# Altium schematic symbol library OptoIso.SchLib: 14 symbols
Pins are listed as number, name and electrical type; pins without a type are passive.

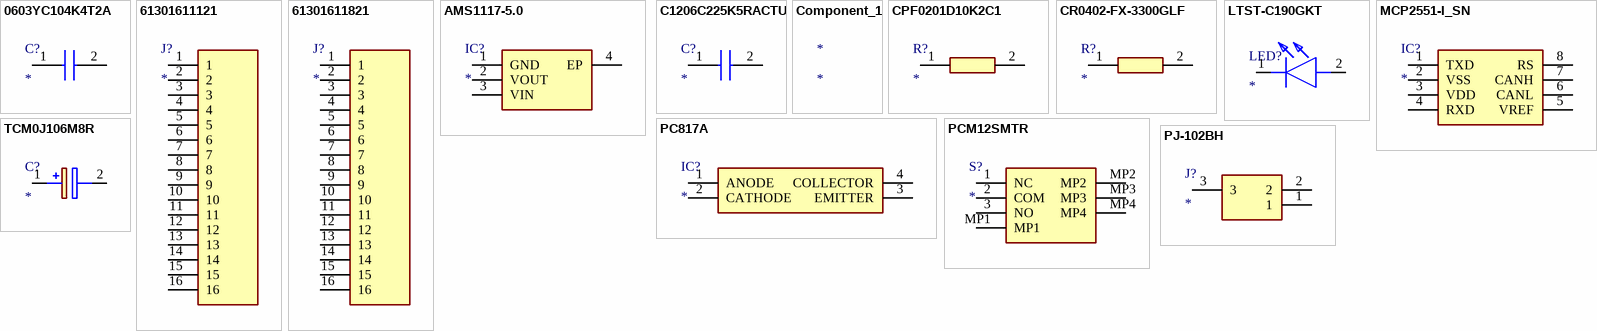
[diagram p0: symbols 0603YC104K4T2A to TCM0J106M8R]

## 0603YC104K4T2A
designator C?
Capacitor; Manufacturer_Name: AVX; Manufacturer_Part_Number: 0603YC104K4T2A; Datasheet Link: https://componentsearchengine.com/Datasheets/1/06031A100FAT2A.pdf; Height: 0.9mm; Mouser Part Number: 581-0603YC104K4; Mouser Price/Stock: https://www.mouser.co.uk/ProductDetail/AVX/0603YC104K4T2A/?qs=Cej1j9ztgjHj4I01NaBI3A%3D%3D; Arrow Part Number: 0603YC104K4T2A; Arrow Price/Stock: https://www.arrow.com/en/products/0603yc104k4t2a/avx
footprint CAPC1608X90N
pins: 1, 2

## 61301611121
designator J?
Connector; Manufacturer_Name: Wurth Elektronik; Manufacturer_Part_Number: 61301611121; Datasheet Link: https://www.we-online.com/catalog/datasheet/61301611121.pdf; Height: 8.74mm; Mouser Part Number: 710-61301611121; Mouser Price/Stock: https://www.mouser.co.uk/ProductDetail/Wurth-Elektronik/61301611121?qs=PhR8RmCirEYq%2F9PEO1%2F%252B%252Bg%3D%3D
footprint HDRV16W79P0X254_1X16_4064X254X874P
pins: 1, 2, 3, 4, 5, 6, 7, 8, 9, 10, 11, 12, 13, 14, 15, 16

## 61301611821
designator J?
Connector; Manufacturer_Name: Wurth Elektronik; Manufacturer_Part_Number: 61301611821; Datasheet Link: https://www.we-online.com/catalog/datasheet/61301611821.pdf; Height: 8.65mm; Mouser Part Number: 710-61301611821; Mouser Price/Stock: https://www.mouser.co.uk/ProductDetail/Wurth-Elektronik/61301611821?qs=xZ%2FP%252Ba9zWqYIxo6RU%252B1Wuw%3D%3D
footprint RHDR16W82P0X254_1X16_4114X250X865P
pins: 1, 2, 3, 4, 5, 6, 7, 8, 9, 10, 11, 12, 13, 14, 15, 16

## AMS1117-5.0
designator IC?
Integrated Circuit; Manufacturer_Name: Shikues; Manufacturer_Part_Number: AMS1117-5.0; Datasheet Link: https://datasheet.lcsc.com/szlcsc/SK-AMS1117-5-0_C165483.pdf; Height: 1.8mm
footprint SOT290P700X180-4N
pins: 1 GND, 2 VOUT, 3 VIN, 4 EP

## C1206C225K5RACTU
designator C?
Capacitor; Manufacturer_Name: KEMET; Manufacturer_Part_Number: C1206C225K5RACTU; Description: SMD Comm X7R; Datasheet Link: https://content.kemet.com/datasheets/KEM_C1002_X7R_SMD.pdf; Mouser Part Number: 80-C1206C225K5R; Mouser Price/Stock: https://www.mouser.co.uk/ProductDetail/KEMET/C1206C225K5RACTU?qs=STjISULpmtZpfJMIEM1zeA%3D%3D; Arrow Part Number: C1206C225K5RACTU; Arrow Price/Stock: https://www.arrow.com/en/products/c1206c225k5ractu/kemet-corporation?region=nac
footprint C1206
pins: 1, 2

## Component_1
designator *

## CPF0201D10K2C1
designator R?
Resistor; Manufacturer_Name: TE Connectivity; Manufacturer_Part_Number: CPF0201D10K2C1; Description: 10.2k 0201 Thin Film Surface Mount Fixed Resistor +/-0.5% 0.031W CPF0201D10K2C1; Datasheet Link: http://www.te.com/commerce/DocumentDelivery/DDEController?Action=showdoc&DocId=Data+Sheet%7F1773200-1%7FA%7Fpdf%7FEnglish%7FENG_DS_1773200-1_A.pdf%7F4-2176215-6; Height: 0.28mm; Mouser Part Number: N/A; Mouser Price/Stock: https://www.mouser.com/Search/Refine.aspx?Keyword=N%2FA
footprint RESC0603X28N
pins: 1, 2

## CR0402-FX-3300GLF
designator R?
Resistor; Manufacturer_Name: Bourns; Manufacturer_Part_Number: CR0402-FX-3300GLF; Datasheet Link: https://www.bourns.com/pdfs/CR0402.pdf; Height: 0.4mm; Mouser Part Number: 652-CR0402FX-3300GLF; Mouser Price/Stock: https://www.mouser.co.uk/ProductDetail/Bourns/CR0402-FX-3300GLF?qs=SFHnMgm9IsyaL104gdTOhg%3D%3D; Arrow Part Number: CR0402-FX-3300GLF; Arrow Price/Stock: https://www.arrow.com/en/products/cr0402-fx-3300glf/bourns
footprint RESC1005X40N
pins: 1, 2

## LTST-C190GKT
designator LED?
LED; Manufacturer_Name: Lite-On; Manufacturer_Part_Number: LTST-C190GKT; Datasheet Link: https://media.digikey.com/pdf/Data%20Sheets/Lite-On%20PDFs/LTST-C190GKT.pdf; Height: 0.9mm; Mouser Part Number: 859-LTST-C190GKT; Mouser Price/Stock: https://www.mouser.co.uk/ProductDetail/Lite-On/LTST-C190GKT?qs=drxkyCeiWgbQzclgbojDOg%3D%3D; Arrow Part Number: LTST-C190GKT; Arrow Price/Stock: https://www.arrow.com/en/products/ltst-c190gkt/lite-on-technology?region=nac
footprint LEDC1608X90N
pins: 1 K, 2 A

## MCP2551-I_SN
designator IC?
Integrated Circuit; Manufacturer_Name: Microchip; Manufacturer_Part_Number: MCP2551-I/SN; Description: High Speed CAN Transceiver,MCP2551-I/SN; Datasheet Link: https://datasheet.datasheetarchive.com/originals/distributors/Datasheets-34/DSA-674994.pdf; Height: 1.75mm; Mouser Part Number: 579-MCP2551-I/SN; Mouser Price/Stock: https://www.mouser.co.uk/ProductDetail/Microchip-Technology/MCP2551-I-SN?qs=9y3LFqDLL8L5zFfqqxdOHg%3D%3D; Arrow Part Number: MCP2551-I/SN; Arrow Price/Stock: https://www.arrow.com/en/products/mcp2551-isn/microchip-technology?region=nac
footprint SOIC127P600X175-8N
pins: 1 TXD, 2 VSS, 3 VDD, 4 RXD, 5 VREF, 6 CANL, 7 CANH, 8 RS

## PC817A
designator IC?
Integrated Circuit; Manufacturer_Name: Sharp Microelectronics; Manufacturer_Part_Number: PC817A; Datasheet Link: https://pdf1.alldatasheet.com/datasheet-pdf/view/43370/SHARP/PC817A.html; Height: 4.5mm
footprint DIP762W60P254L458H450Q4N
pins: 1 ANODE, 2 CATHODE, 3 EMITTER, 4 COLLECTOR

## PCM12SMTR
designator S?
Switch; Manufacturer_Name: C & K COMPONENTS; Manufacturer_Part_Number: PCM12SMTR; Datasheet Link: https://www.ckswitches.com/media/1424/pcm.pdf; Height: 1.4mm; Mouser Part Number: 611-PCM12SMTR; Mouser Price/Stock: https://www.mouser.co.uk/ProductDetail/CK/PCM12SMTR?qs=mfFuHy8STfL3qrPSfCHA7w%3D%3D; Arrow Part Number: PCM12SMTR; Arrow Price/Stock: https://www.arrow.com/en/products/pcm12smtr/ck?region=nac
footprint PCM12SMTR
pins: 1 NC, 2 COM, 3 NO, MP1, MP2, MP3, MP4

## PJ-102BH
designator J?
Connector; Manufacturer_Name: CUI Devices; Manufacturer_Part_Number: PJ-102BH; Datasheet Link: https://componentsearchengine.com/Datasheets/1/PJ-102BH.pdf; Mouser Part Number: 490-PJ-102BH; Mouser Price/Stock: https://www.mouser.co.uk/ProductDetail/CUI-Devices/PJ-102BH?qs=WyjlAZoYn51LQvDYqCqBtA%3D%3D; Arrow Part Number: PJ-102BH; Arrow Price/Stock: https://www.arrow.com/en/products/pj-102bh/cui-devices?region=nac
footprint PJ-102AH
pins: 1, 2, 3

## TCM0J106M8R
designator C?
Capacitor Polarised; Manufacturer_Name: ROHM Semiconductor; Manufacturer_Part_Number: TCM0J106M8R; Datasheet Link: https://datasheet.datasheetarchive.com/originals/distributors/Datasheets_SAMA/255248ae09371697a9bedad935b0557d.pdf; Height: 0.9mm; Mouser Part Number: 755-TCM0J106M8R; Mouser Price/Stock: https://www.mouser.com/Search/Refine.aspx?Keyword=755-TCM0J106M8R; Arrow Part Number: TCM0J106M8R; Arrow Price/Stock: https://www.arrow.com/en/products/tcm0j106m8r/rohm-semiconductor
footprint CAPPM168X90N
pins: 1 +, 2 -